# Altium footprint library RGK-56.PcbLib: 1 footprints
Each footprint in its own frame and in the unit in brackets; x right, y up, seen from the top. Pads: shape width x height; smd on the part's side, far side on the other; paste and mask are expansions set on the pad; w line width, h text height; cw(c..) or ccw(c..) is an arc to the next point about the centre after c.
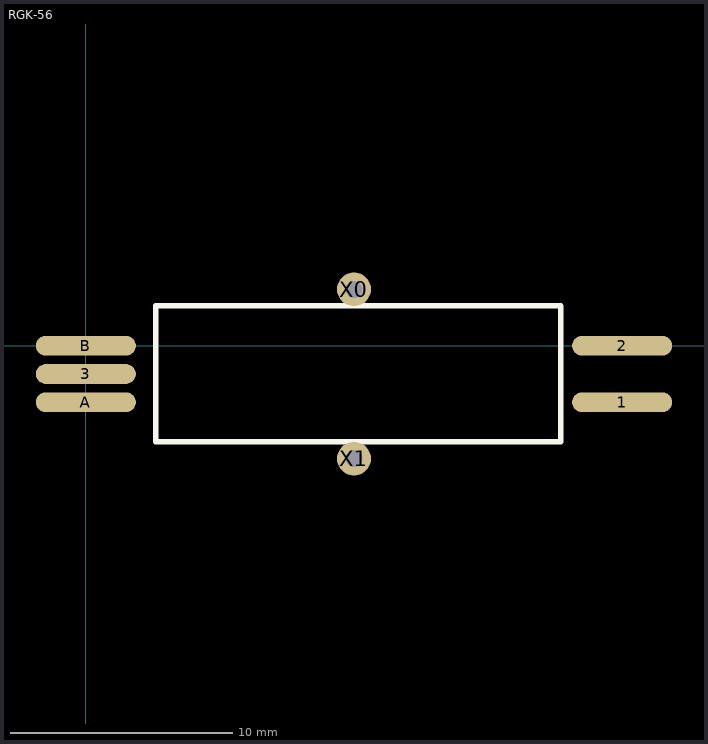
[diagram p0: the footprint, top view; thin cyan lines are the x and y axes]

## RGK-56 [mil]
pads (7):
  oval 177.16x35 smd: 1(950,-100) 2(950,0) 3(0,-50) A(0,-100) B(0,0)
  round 60 hole 30: X0(475,100) X1(475,-200)
Top Overlay:
  lines w10: 123.58,-170.28 123.58,70.87 840.55,70.87 840.98,70.43 840.98,-170.28 123.58,-170.28
3D body: height 276, standoff 7, extent 40,-170 910,70